# EAGLE library part TLP2116 (library okamoto)
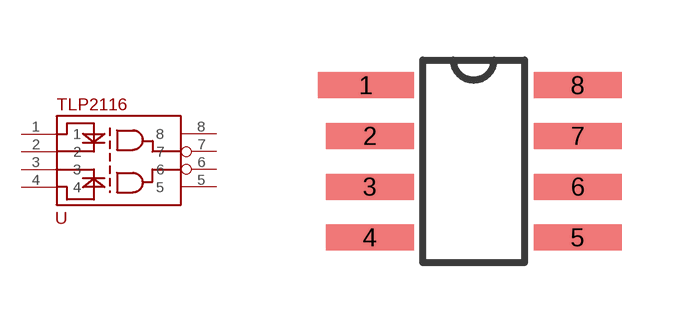
[diagram p12: symbol with the pads of SOIC-8; footprint SOIC-8]

Designator prefix U

## TLP2116  [SOIC-8]
1  1  in
2  2  in
3  3  in
4  4  in
5  5  pwr
6  6  out
7  7  out
8  8  pwr

## Footprint SOIC-8 (pad centres in mm)
smd 2.4 x 0.65: 1 -2.7,1.905
smd 2.2 x 0.65: 2 -2.6,0.635; 3 -2.6,-0.635; 4 -2.6,-1.905; 5 2.6,-1.905; 6 2.6,-0.635; 7 2.6,0.635; 8 2.6,1.905